# Altium schematic symbol library Bridge.SchLib: 1 symbol
Pins are listed as number, name and electrical type; pins without a type are passive.

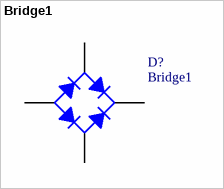
[diagram p0: symbol Bridge1]

## Bridge1
designator D?
Full Wave Diode Bridge
footprint BRIDGE-15-V
pins: 1 K, 2 C, 3 C, 4 A